# Altium schematic symbol library BTI7-69V OS.Schlib: 1 symbol
Pins are listed as number, name and electrical type; pins without a type are passive.

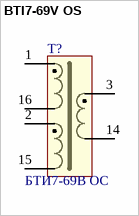
[diagram p0: symbol BTI7-69V OS]

## BTI7-69V OS
designator T?, comment БТИ7-69В ОС
Назначение: Блок трансформаторов; Наименование: БТИ7-69В ОС
footprint BTI7
pins: 1, 2, 3, 14, 15, 16